# EAGLE library part HEADER-1X7 (library anykey)
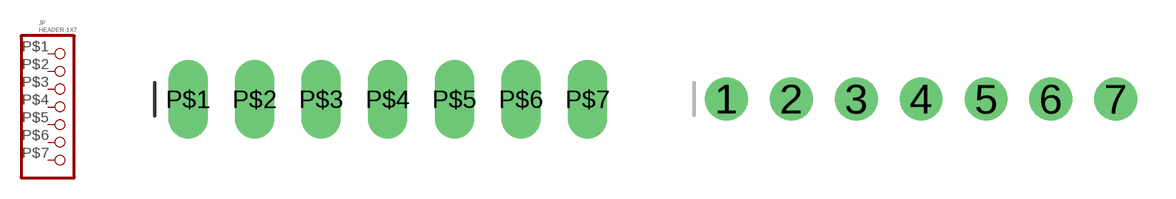
[diagram p46: symbol with the pads of 1X07_OVAL; footprints 1X07_OVAL, 1X07_ROUND]

Designator prefix JP

## HEADER-1X7OVAL  [1X07_OVAL]
P$1  1  pas
P$2  2  pas
P$3  3  pas
P$4  4  pas
P$5  5  pas
P$6  6  pas
P$7  7  pas

## HEADER-1X7ROUND  [1X07_ROUND]
1  1  pas
2  2  pas
3  3  pas
4  4  pas
5  5  pas
6  6  pas
7  7  pas

## Footprint 1X07_OVAL (pad centres in mm)
drill 1 long: P$1 -7.62,0; P$2 -5.08,0; P$3 -2.54,0; P$4 0,0; P$5 2.54,0; P$6 5.08,0; P$7 7.62,0

## Footprint 1X07_ROUND (pad centres in mm)
drill 1 pad 1.676: 1 -7.62,0; 2 -5.08,0; 3 -2.54,0; 4 0,0; 5 2.54,0; 6 5.08,0; 7 7.62,0